# Altium integrated library Display.IntLib: 2 symbols
Pins are listed as number, name and electrical type; pins without a type are passive.

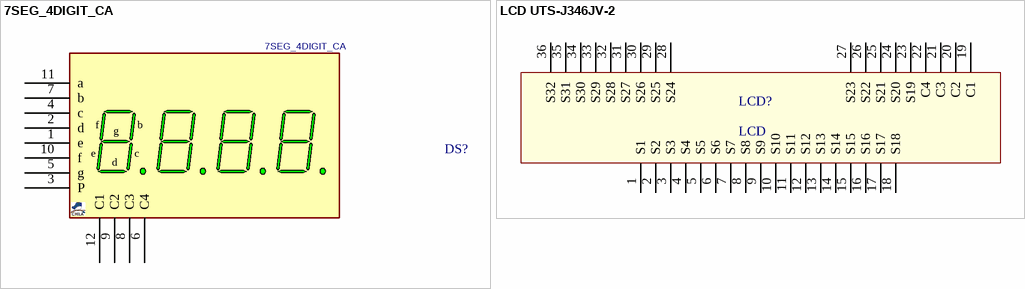
[diagram p0: symbols 7SEG_4DIGIT_CA to LCD UTS-J346JV-2]

## 7SEG_4DIGIT_CA
designator DS?
7SEGMENT, 4DIGIT, common Anode 5641; PartNumber: CA 7-SEG 4-DIGIT 19X51 R; MANF_P#: DPY-4CK; VALUE: 7SEG_4DIGIT_CA
footprint 7SEGX4_12 (7SEG 4DIGIT 12pin Pitch: 2.54mm    5641 0.56", 19X50.3mm)
pins: 1 e, 2 d, 3 P, 4 c, 5 g, 6 C4, 7 b, 8 C3, 9 C2, 10 f, 11 a, 12 C1

## LCD UTS-J346JV-2
designator LCD?, comment LCD
PartNumber: UTS-J346JV-2
footprint LCD_HG
pins: 1 S1, 2 S2, 3 S3, 4 S4, 5 S5, 6 S6, 7 S7, 8 S8, 9 S9, 10 S10, 11 S11, 12 S12, 13 S13, 14 S14, 15 S15, 16 S16, 17 S17, 18 S18, 19 C1, 20 C2, 21 C3, 22 C4, 23 S19, 24 S20, 25 S21, 26 S22, 27 S23, 28 S24, 29 S25, 30 S26, 31 S27, 32 S28, 33 S29, 34 S30, 35 S31, 36 S32